# Altium schematic symbol library Schlib1.SchLib: 37 symbols
Pins are listed as number, name and electrical type; pins without a type are passive.

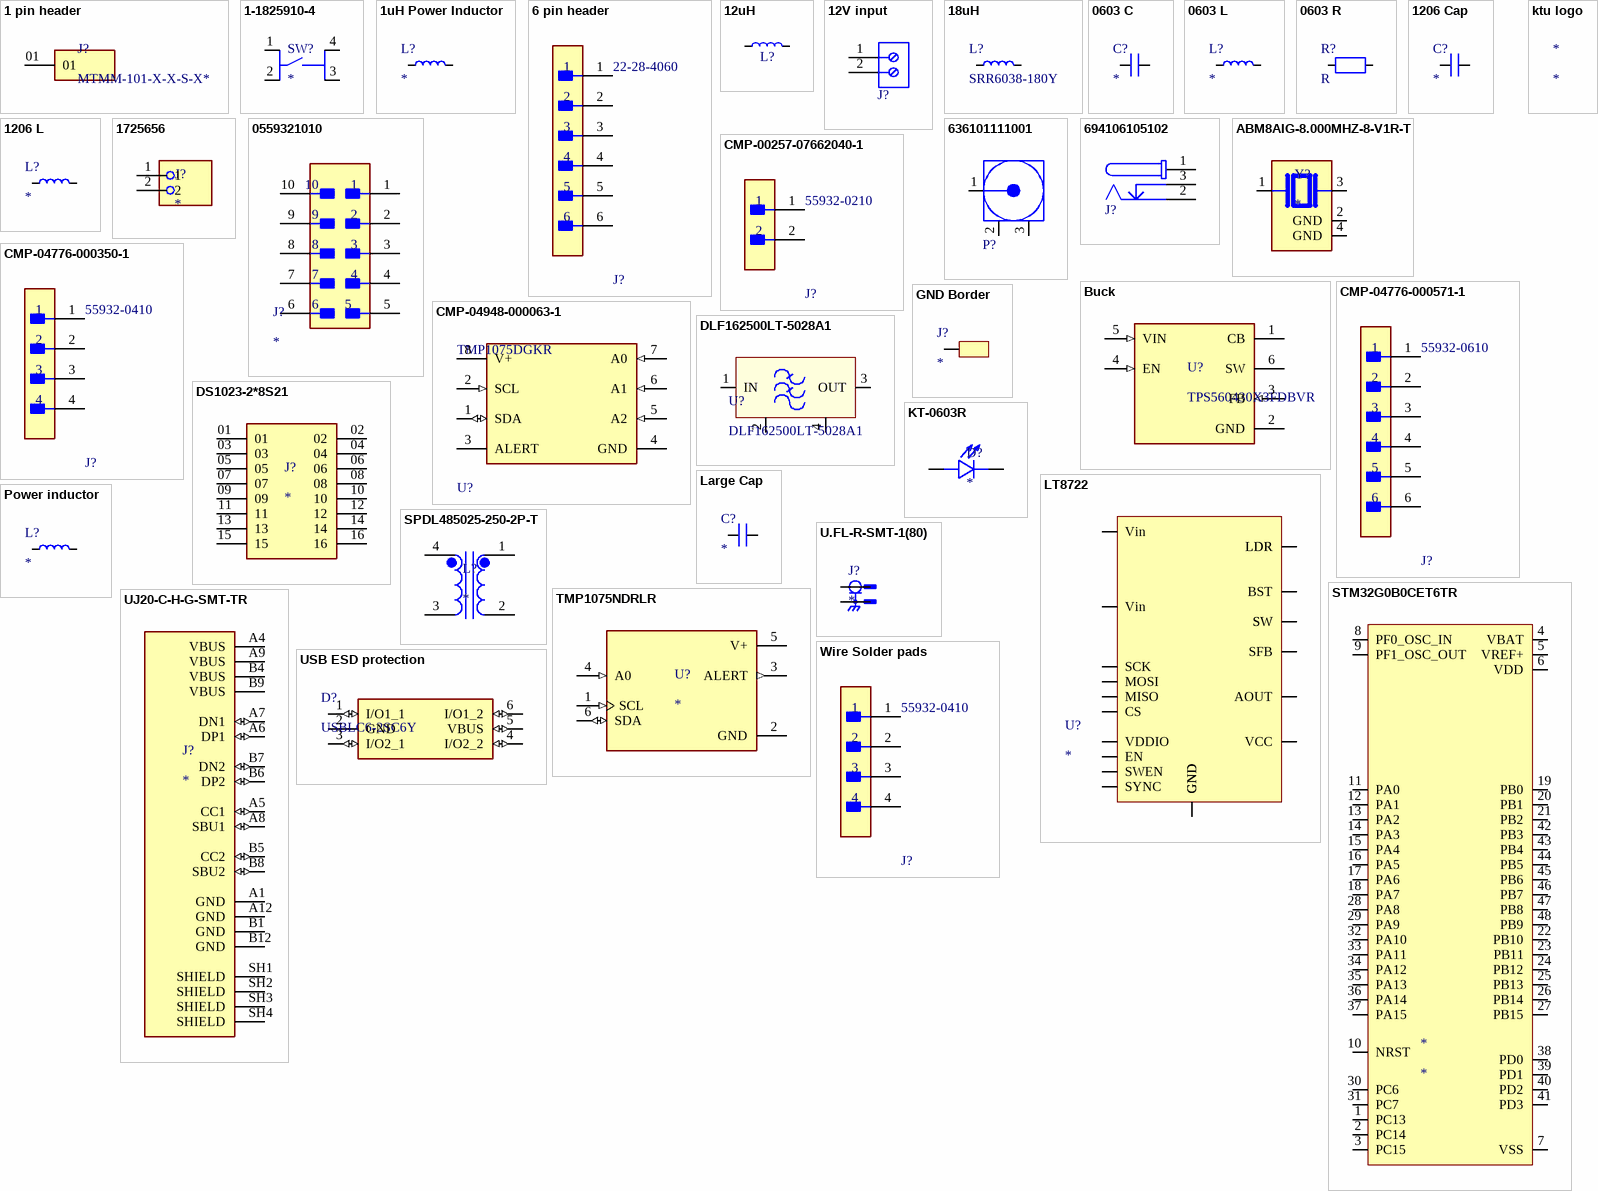
[diagram p0: symbols 1 pin header to Wire Solder pads]

## 1 pin header
designator J?, comment MTMM-101-X-X-S-X*
Connector Header Through Hole 1 position; MF: Samtec; MP: MTMM-101-05-G-S-225; SnapEDA_Link: https://www.snapeda.com/parts/MTMM-101-05-G-S-225/Samtec/view-part/?ref=snap; Package: None; Value: *; Check_prices: https://www.snapeda.com/parts/MTMM-101-05-G-S-225/Samtec/view-part/?ref=eda
footprint SAMTEC_MTMM-101-X-X-S-X
pins: 01

## 1-1825910-4
designator SW?
Switch Tactile OFF _ON_ SPST Round Button PC Pins 0.05A 24VDC 100000Cycles 1.56N Thru-Hole; MF: TE Connectivity; MP: 1-1825910-4; Availability: Unavailable; SnapEDA_Link: https://www.snapeda.com/parts/1-1825910-4/TE%20Connectivity%20ALCOSWITCH%20Switches/view-part/558688/?ref=snap; Price: None; EU_RoHS_Compliance: Compliant; Package: None; TE_purchase_URL: https://www.te.com/usa-en/product-1-1825910-4.html?te_bu=Cor&te_type=disp&te_campaign=seda_glo_cor-seda-global-disp-prtnr-fy19-seda-model-bom-cta_sma-317_1&elqCampaignId=32493; Value: *
footprint TE_1-1825910-4
pins: 1, 2, 3, 4

## 1uH Power Inductor
designator L?
footprint 1uH Power Inductor
pins: 1, 2

## 6 pin header
designator J?, comment 22-28-4060
CONN HEADER VERT 6POS 2.54MM; Voltage Rating: 250V; Current Rating: 4A; Number of Contacts: 6; Max Voltage Rating (DC): 250.25kV; Gender: Male; Contact Resistance: 20mR; Connector Type: Male Pin; Color: Black; Max Voltage Rating (AC): 250V; Pitch: 2.54mm; Orientation: Straight; Max Operating Temperature: 75°C; Contact Plating: Tin; Depth: 2.49mm; Contact Type: Male Pin; Number of Positions: 6; Length: 15.24mm; Packaging: Bulk; Mount: Through Hole; Housing Material: Thermoplastic; Housing Color: Black; Termination: Solder; Contact Material: Brass; Min Operating Temperature: 0°C; Series: KK® 42375; Number of Rows: 1; Package Quantity: 1; RoHS Compliant: Yes; Contact Mating Length: 0.24inch
footprint FP-22-28-4060-MFG
pins: 1, 2, 3, 4, 5, 6

## 12uH
designator L?, comment 744787012  (value not drawn)
WE-PD2SR SMT Power Inductor, size 7850, 1.2µH, 4.85A, 13mΩ; Manufacturer: Wurth Elektronik; Case/Size Code: 7850; DC Resistance: 8.5mΩ; Saturation Current: 6A; Self Resonant Frequency: 110MHz; Manufacturer Part Number: 744787012; Category: Shielded Power Inductors; Match Code: WE-PD2SR; ComponentLink1Description: Website Link; ComponentLink1URL: https://www.we-online.com/redexpert/article/744787012?ad; ComponentLink2Description: Datasheet Link; ComponentLink2URL: https://www.we-online.com/redexpert/spec/744787012?ad; Mount: Surface Mount; Operating Temperature Max: 125°C; Operating Temperature Min: -40°C; Packaging: Tape and Reel; Length: 7.8mm; Width: 7mm; Height: 5mm; DC Resistance Max: 13mΩ; Inductance: 1.2µH; Rated Current: 4.85A
footprint WE-PD2SR_7850 (SMD Shielded Power Inductor, body 7.8x7.0mm)
pins: 1, 2

## 12V input
designator J?, comment 691111710002  (value not drawn)
WR-TBL Series 111 Horizontal Entry Modular, THT, pitch 5mm, 2p; Manufacturer: Wurth Elektronik; Modularity: Yes; Rated Current: 15A; Working Voltage: 250V; ComponentLink1Description: Website Link; ComponentLink1URL: https://www.we-online.com/redexpert/article/691111710002?ad; ComponentLink2Description: Datasheet Link; ComponentLink2URL: https://www.we-online.com/redexpert/spec/691111710002?ad; Manufacturer Part Number: 691111710002; Category: Terminal Blocks; Match Code: WR-TBL; Mount: Through Hole; Operating Temperature Max: 105°C; Operating Temperature Min: -40°C; Packaging: Box; Application: Pressure Clamp; Number of Pins: 2; Number of Rows: 1; Orientation: Horizontal; Pitch: 5mm
footprint 12 V input (5,00mm - modular - green - Horizontal entry with pressure clamp - 10,0mm height - 02p, 691111710002)
pins: 1, 2

## 18uH
designator L?, comment SRR6038-180Y
Ind6.8x6.8x3.8mm,18uH30%1.5A,shdSMD | Bourns SRR6038-180Y; SnapEDA_Link: https://www.snapeda.com/parts/SRR6038-180Y/Bourns/view-part/?ref=snap; Package: NON STANDARD-2 Bourns; Value: *; MF: Bourns; MP: SRR6038-180Y; Check_prices: https://www.snapeda.com/parts/SRR6038-180Y/Bourns/view-part/?ref=eda
footprint IND_SRR6038-180Y
pins: 1, 2

## 0603 C
designator C?
footprint 0603 Imperial
pins: 1, 2

## 0603 L
designator L?
footprint 0603 Imperial
pins: 1, 2

## 0603 R
designator R?, comment R
footprint 0603 Imperial
pins: 1, 2

## 1206 Cap
designator C?
footprint CAPC3216X180X55LL20T25 (Chip Capacitor, 2-Leads, Body 3.4x1.8mm, IPC High Density)
pins: 1, 2

## 1206 L
designator L?
footprint 10uH 1206 (INDC2012X145N)
pins: 1, 2

## 1725656
designator J?
PCB Terminal Screw 2.54mm 20AWG 160V 6A 2 Position COMBICON MPT Series | Phoenix Contact 1725656; SnapEDA_Link: https://www.snapeda.com/parts/1725656/Phoenix+Contact/view-part/?ref=snap; Package: None; Value: *; MF: Phoenix Contact; MP: 1725656; Check_prices: https://www.snapeda.com/parts/1725656/Phoenix+Contact/view-part/?ref=eda
footprint PHOENIX_1725656
pins: 1, 2

## 0559321010
designator J?
footprint FP-55932-1010-MFG
pins: 1, 2, 3, 4, 5, 6, 7, 8, 9, 10

## 636101111001
designator P?  (value not drawn)
WR-UMRF PCB Receptacle SMT with 3 Pads, DC~6GHz, 50Ω; Manufacturer: Wurth Elektronik; ComponentLink1Description: Website Link; ComponentLink1URL: https://www.we-online.com/redexpert/article/636101111001?ad; ComponentLink2Description: Datasheet Link; ComponentLink2URL: https://www.we-online.com/redexpert/spec/636101111001?ad; Manufacturer Part Number: 636101111001; Category: Coaxial Connectors; Match Code: WR-UMRF; Mount: Surface Mount; Operating Temperature Max: 90°C; Operating Temperature Min: -40°C; Packaging: Tape and Reel; Frequency Range: DC~6GHz; Impedance: 50Ω
footprint 63610111x001
pins: 1 Signal "Signal Pin", 2 GND, 3 GND

## 694106105102
designator J?  (value not drawn)
WR-DC DC Power Jack Connector, Male, Right Angled, 24V, 5A; Manufacturer: Wurth Elektronik; Opening Diameter: 6.4mm; Plug Inner Diameter: 2.05mm; Plug Outer Diameter: 5.5mm; ComponentLink1Description: Website Link; ComponentLink1URL: https://www.we-online.com/redexpert/article/694106105102?ad; ComponentLink2Description: Datasheet Link; ComponentLink2URL: https://www.we-online.com/redexpert/spec/694106105102?ad; Manufacturer Part Number: 694106105102; Category: DC Power Jack Connector; Match Code: WR-DC; Mount: Surface Mount; Operating Temperature Max: 85°C; Operating Temperature Min: -40°C; Packaging: Tape and Reel; Gender: Male; Orientation: Right Angled; Rated Current: 5A; Working Voltage: 24V
footprint 694108105102 (DC Power Jack Right Angled SMT ?6.4 with pegs)
pins: 1, 2, 3

## ABM8AIG-8.000MHZ-8-V1R-T
designator Y?
8 MHz Â±10ppm Crystal 8pF 500 Ohms 4-SMD, No Lead; MF: Abracon LLC; MP: ABM8AIG-8.000MHZ-8-V1R-T; Check_prices: https://www.snapeda.com/parts/ABM8AIG-8.000MHZ-8-V1R-T/Abracon+LLC/view-part/?ref=eda; Price: None; SnapEDA_Link: https://www.snapeda.com/parts/ABM8AIG-8.000MHZ-8-V1R-T/Abracon+LLC/view-part/?ref=snap; Value: *; Availability: In Stock; Package: SMD-4 Abracon LLC; Purchase-URL: https://pricing.snapeda.com/search/part/ABM8AIG-8.000MHZ-8-V1R-T/?ref=eda
footprint XTAL_ABM8AIG-8.000MHZ-8-V1R-T
pins: 1, 2 GND (power), 3 2, 4 GND (power)

## Buck
designator U?, comment TPS560430X3FDBVR
MF: {'manufacturer': u'Texas Instruments'}; Package: None; Price: None; Value: *; MP: TPS560430X3FDBVR; Availability: Unavailable
footprint Buck (IC_TPS560430X3FDBVR)
pins: 1 CB, 2 GND (power), 3 FB (in), 4 EN (in), 5 VIN (in), 6 SW

## CMP-00257-07662040-1
designator J?, comment 55932-0210
55932-0210 2.00mm Pitch MicroClasp Wire-to-Board Header Single Row Vertical 2 Circuits with PCB Locator; Manufacturer Lifecycle Status: ACTIVE; NexarPartId: 7662040; Insulation Resistance: 1GΩ; Glow Wire Compliant: Non-compliant; Contact Resistance: 20mΩ; Number of Circuits: 2; Plating: Tin; Gender: Male; Voltage Rating (AC): 250V; Current Rating: 3A; Pitch: 2mm; Flammability Rating: UL94 V-0; Contact Gender: Male; Radiation Hardening: No; RoHS: Compliant; Min Operating Temperature: -25°C; Housing Material: Polyester; Contact Material: Brass; Lead Pitch: 2mm; Max Operating Temperature: 85°C; Schedule B: 8536694040|8536694040|8536694040|8536694040|8536694040; Color: White; Mount: Through Hole; Country of Origin: JP; Number of Positions: 2; REACH SVHC: Unknown; Lifecycle Status: Production; Number of Contacts: 2; Number of Rows: 1; Voltage Rating: 250V; Material: Polyester; Termination: Through Hole; Contact Plating: Tin; Orientation: Vertical
footprint FP-55932-0210-MFG
pins: 1, 2

## CMP-04776-000350-1
designator J?, comment 55932-0410
CONN HEADER VERT 4POS 2MM; Number of Contacts: 4; Current Rating: 3A; Voltage Rating: 250V; Contact Plating: Tin; Series: 55932; Max Operating Temperature: 85°C; Contact Material: Brass; Case/Package: 0410; Min Operating Temperature: -25°C; Number of Positions: 4; Termination: Solder; Number of Circuits: 4; Orientation: Vertical; Pitch: 2mm; Radiation Hardening: No; Housing Material: Polyester; Number of Rows: 1; Contact Gender: Male; Packaging: Tray; RoHS Compliant: Yes; Mount: Through Hole
footprint FP-55932-0410-MFG
pins: 1, 2, 3, 4

## CMP-04776-000571-1
designator J?, comment 55932-0610
CONN HEADER VERT 6POS 2MM; Gender: Male; Voltage Rating: 250V; Number of Circuits: 6; Glow Wire Compliant: Non-compliant; Insulation Resistance: 1GR; Current Rating: 3A; Material: Polyester; Orientation: Vertical; Flammability Rating: UL94 V-0; Pitch: 2mm; Package Quantity: 3200; Number of Rows: 1; Max Operating Temperature: 85°C; Mount: Through Hole; Number of Contacts: 6; Packaging: Tray; Min Operating Temperature: -25°C; Contact Plating: Tin; Series: 55932; Number of Positions: 6; Contact Material: Brass; Termination: Through Hole; RoHS Compliant: Yes; Housing Material: Polyester; Radiation Hardening: No
footprint FP-55932-0610-MFG
pins: 1, 2, 3, 4, 5, 6

## CMP-04948-000063-1
designator U?, comment TMP1075DGKR
SENSOR TEMPERATURE; Interface: I2C; RoHS Compliant: Yes; Min Operating Temperature: -40°C; Max Operating Temperature: 125°C
footprint FP-DGK0008A-IPC_A
footprint FP-DGK0008A-IPC_B
footprint FP-DGK0008A-IPC_C
footprint FP-DGK0008A-MFG
pins: 1 SDA (io), 2 SCL (in), 3 ALERT (oc), 4 GND (power), 5 A2 (in), 6 A1 (in), 7 A0 (in), 8 V+ (power)

## DLF162500LT-5028A1
designator U?
footprint 810-DLF16250LT5028A1
pins: 1 IN, 2 GND, 3 OUT, 4 GND

## DS1023-2*8S21
designator J?
SSQ - Samtec 2.54mm Square Tail Dual Row Socket Strip 8.5mm Profile - Fast Stock; MP: SSQ-108-XX-X-D; MF: Samtec; Package: None; Price: None; Value: *; Availability: Unavailable
footprint 16 pin header
pins: 01, 02, 03, 04, 05, 06, 07, 08, 09, 10, 11, 12, 13, 14, 15, 16

## GND Border
designator J?
footprint GND Border
pins: 0

## KT-0603R
designator D?
Red 0603 Light Emitting Diodes; MF: Hubei KENTO Elec; MP: KT-0603R; SnapEDA_Link: https://www.snapeda.com/parts/KT-0603R/Hubei+KENTO+Elec/view-part/?ref=snap; Package: Package; Value: *; Check_prices: https://www.snapeda.com/parts/KT-0603R/Hubei+KENTO+Elec/view-part/?ref=eda
footprint LED_KT-0603R
pins: A, C

## ktu logo
designator *
footprint KTU logo

## Large Cap
designator C?
footprint FP-TAJD-MFG
pins: 1, 2

## LT8722
designator U?
footprint LT8722
pins: 1 SYNC, 2 VCC, 3 BST, 4 Vin, 5 GND, 6 SW, 7 SW, 8 LDR, 9 LDR, 10 GND, 11 Vin, 12 SFB, 13 SWEN, 14 VDDIO, 15 CS, 16 SCK, 17 MOSI, 18 MISO, 19 EN, 20 AOUT, 21 GND, 22 GND

## Power inductor
designator L?
footprint Power Inductor (Universal_Pad_Size)
pins: 1, 2

## SPDL485025-250-2P-T
designator L?
MP: SPDL485025-250-2P-T; Availability: Unavailable; Price: None; Value: *; Package: None
footprint IND_SPDL485025-250-2P-T
pins: 1, 2, 3, 4

## STM32G0B0CET6TR
designator *
footprint STM32G0B0CET6TR
pins: 1 PC13, 2 PC14, 3 PC15, 4 VBAT, 5 VREF+, 6 VDD, 7 VSS, 8 PF0_OSC_IN, 9 PF1_OSC_OUT, 10 NRST, 11 PA0, 12 PA1, 13 PA2, 14 PA3, 15 PA4, 16 PA5, 17 PA6, 18 PA7, 19 PB0, 20 PB1, 21 PB2, 22 PB10, 23 PB11, 24 PB12, 25 PB13, 26 PB14, 27 PB15, 28 PA8, 29 PA9, 30 PC6, 31 PC7, 32 PA10, 33 PA11, 34 PA12, 35 PA13, 36 PA14, 37 PA15, 38 PD0, 39 PD1, 40 PD2, 41 PD3, 42 PB3, 43 PB4, 44 PB5, 45 PB6, 46 PB7, 47 PB8, 48 PB9

## TMP1075NDRLR
designator U?
1Â°C IÂ²C temperature sensor with performance upgrades to industry standard LM75 / TMP75; MF: Texas Instruments; MP: TMP1075NDRLR; Availability: In Stock; Check_prices: https://www.snapeda.com/parts/TMP1075NDRLR/Texas+Instruments/view-part/?ref=eda; Package: None; Price: None; Purchase-URL: https://pricing.snapeda.com/search/part/TMP1075NDRLR/?ref=eda; SnapEDA_Link: https://www.snapeda.com/parts/TMP1075NDRLR/Texas+Instruments/view-part/?ref=snap; Value: *
footprint SOT50P160X60-6N
pins: 1 SCL (in), 2 GND (power), 3 ALERT (out), 4 A0 (in), 5 V+ (power), 6 SDA (io)

## U.FL-R-SMT-1(80)
designator J?
MP: U.FL-R-SMT-1(80); Package: None; Price: None; Value: *; Availability: Unavailable
footprint HIROSE_U.FL-R-SMT-1(80)
pins: G1 GND, G2 GND, SIG

## UJ20-C-H-G-SMT-TR
designator J?
Type C, USB 2.0, 480 Mbps, 20 Vdc, 5 A, Right Angle, Gold Flash, Surface Mount, Black Insulator, USB Receptacle; MF: Same Sky; MP: UJ20-C-H-G-SMT-TR; SnapEDA_Link: https://www.snapeda.com/parts/UJ20-C-H-G-SMT-TR/Same+Sky/view-part/?ref=snap; Package: None; Value: *; Check_prices: https://www.snapeda.com/parts/UJ20-C-H-G-SMT-TR/Same+Sky/view-part/?ref=eda
footprint CUI_UJ20-C-H-G-SMT-TR
pins: A1 GND (power), A4 VBUS (power), A5 CC1 (io), A6 DP1 (io), A7 DN1 (io), A8 SBU1 (io), A9 VBUS (power), A12 GND (power), B1 GND (power), B4 VBUS (power), B5 CC2 (io), B6 DP2 (io), B7 DN2 (io), B8 SBU2 (io), B9 VBUS (power), B12 GND (power), SH1 SHIELD, SH2 SHIELD, SH3 SHIELD, SH4 SHIELD

## USB ESD protection
designator D?, comment USBLC6-2SC6Y
17V Clamp 5A (8/20µs) Ipp Tvs Diode Surface Mount SOT-23-6; MF: STMicroelectronics; SnapEDA_Link: https://www.snapeda.com/parts/USBLC6-2SC6Y/STMicroelectronics/view-part/?ref=snap; Package: SOT-23-6 STMicroelectronics; Value: *; MP: USBLC6-2SC6Y; Check_prices: https://www.snapeda.com/parts/USBLC6-2SC6Y/STMicroelectronics/view-part/?ref=eda
footprint USB ESD protection (SOT95P280X145-6N)
pins: 1 I/O1_1 (io), 2 GND, 3 I/O2_1 (io), 4 I/O2_2 (io), 5 VBUS (io), 6 I/O1_2 (io)

## Wire Solder pads
designator J?, comment 55932-0410
CONN HEADER VERT 4POS 2MM; Number of Contacts: 4; Current Rating: 3A; Voltage Rating: 250V; Contact Plating: Tin; Series: 55932; Max Operating Temperature: 85°C; Contact Material: Brass; Case/Package: 0410; Min Operating Temperature: -25°C; Number of Positions: 4; Termination: Solder; Number of Circuits: 4; Orientation: Vertical; Pitch: 2mm; Radiation Hardening: No; Housing Material: Polyester; Number of Rows: 1; Contact Gender: Male; Packaging: Tray; RoHS Compliant: Yes; Mount: Through Hole
footprint Wire Solder Pads
pins: 1, 2, 3, 4